# Altium integrated library TI Power Management Power Over Ethernet.IntLib: 76 symbols (part 5 of 9)
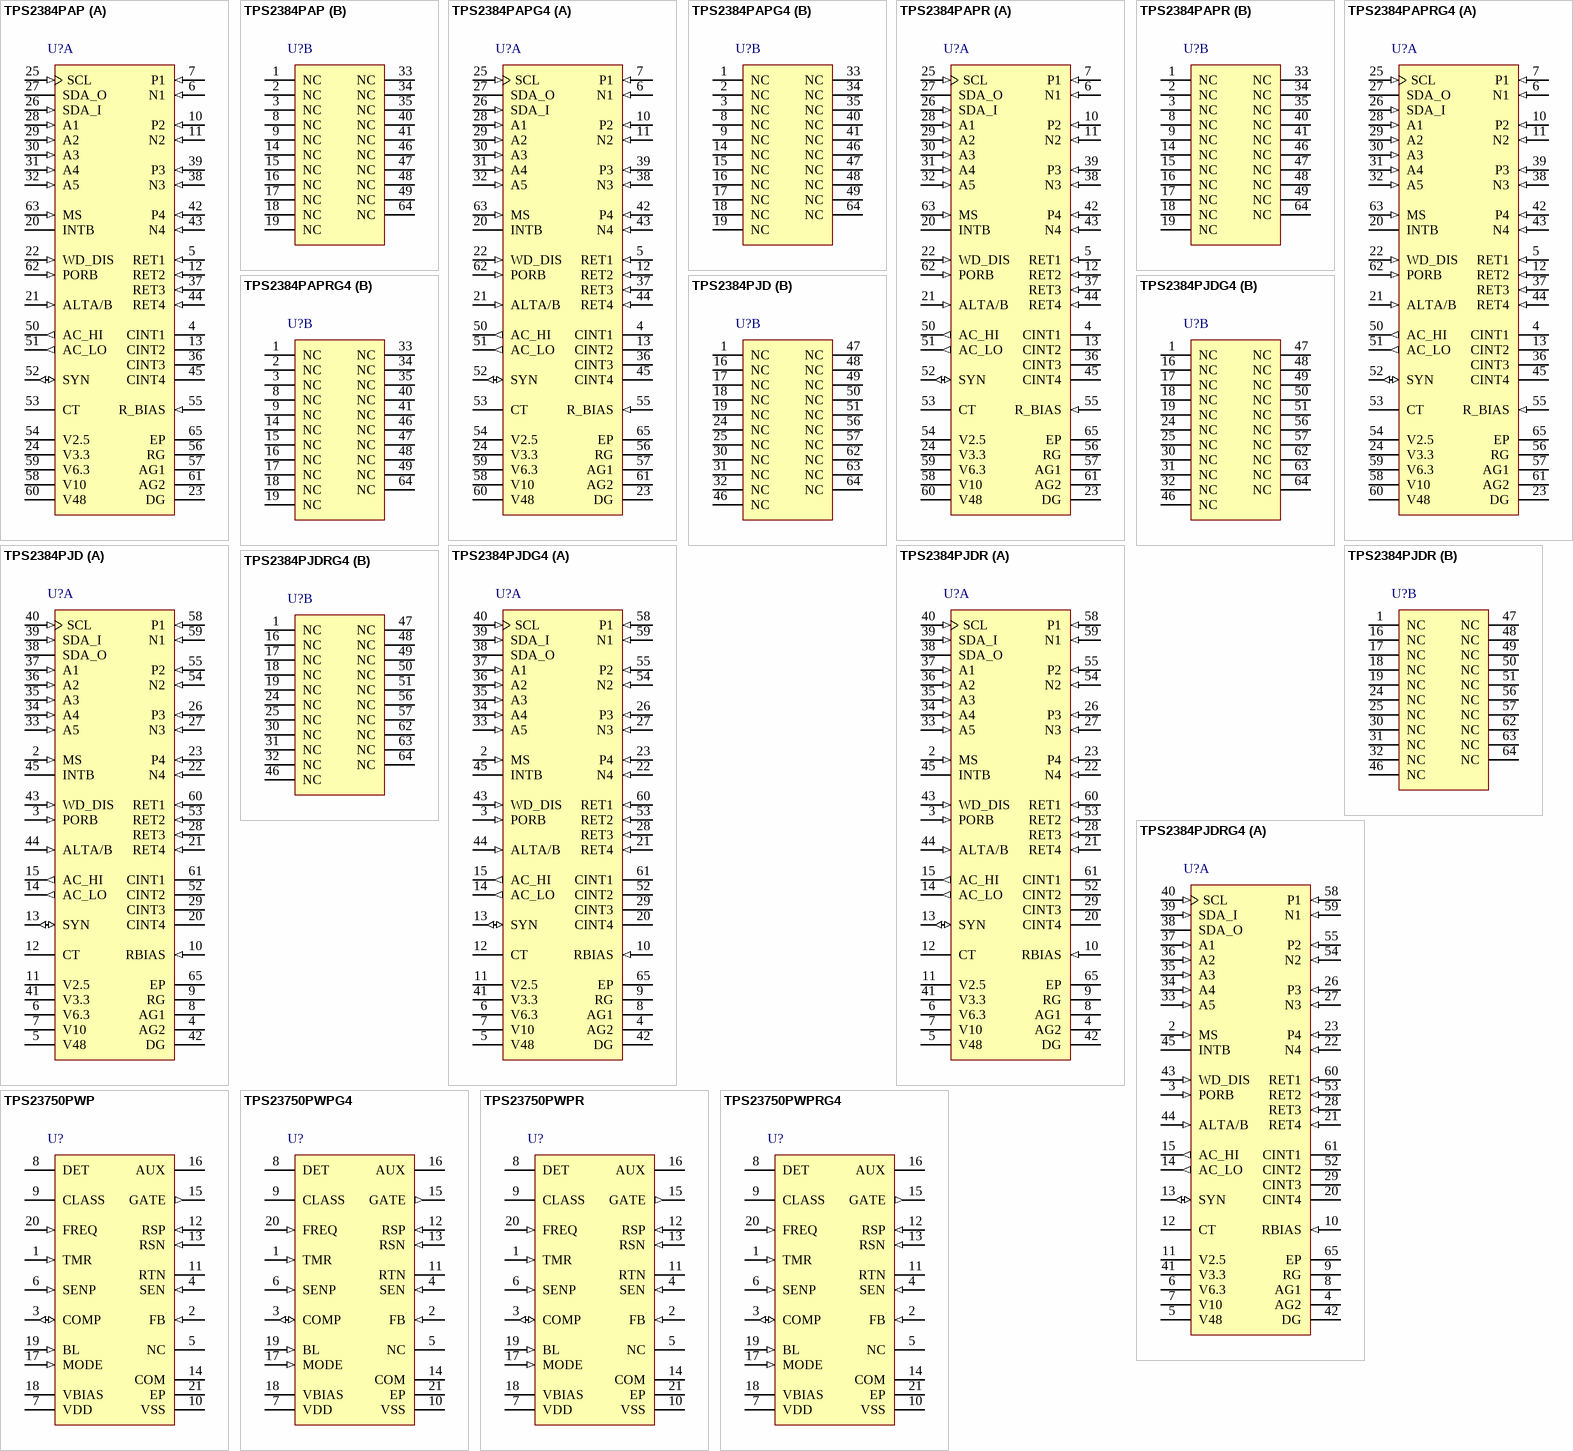
[diagram p7: symbols TPS2384PAP to TPS23750PWPRG4]

## TPS23750PWPRG4
designator U?
IEEE 802.3af PD Controller with Integrated DC / DC, -40 to 85 degC, 20-pin SOP (PW20), Green (RoHS & no Sb/Br); Manufacturer: Texas Instruments; PartNumber: TPS23750PWPRG4; Auxiliary Power Rails Supported: 24V-57V; Auxiliary/Local Power Support: External Circuit; Duty Cycle(%): 50; Error Amplifier: Yes; Fault Response: Auto Retry; PD Power Level: 13W; PoE Current Limit(Min)(mA): 405; PoE I/F & DC DC Control: TRUE; PoE Inrush Limit(Typ)(mA): 140; PoE Standards Supported: 802.3at type1; rDS(on) per FET(Typ)(mOhms): 600; SubFamily: Powered Device; Switching Frequency: Programmable; DatasheetVersion: SLVS590B; PackageVersion: 4073225-4/1; PackageReference: PWP20-3610X2009TP; PackageDescription: 20-Pin PowerPAD Plastic Small Outline, Body 6.5 x 4.4 mm,0.65 mm Pitch; Supplier 1: Digi-Key; Supplier Part Number 1: TPS23750PWPRG4-ND; Supplier 2: Newark; Supplier Part Number 2: 58K6909; Supplier 3: Mouser; Supplier Part Number 3: 595-TPS23750PWPRG4; Eco-Plan: Green (RoHS & no Sb/Br); UVLO: 802.3af; Mounting Technology: Surface Mount; Code_JEDEC: MO-153; ComponentLink1Description: Manufacturer URL; ComponentLink1URL: http://www.ti.com/; ComponentLink2Description: Datasheet; ComponentLink2URL: http://www.ti.com/general/docs/lit/getliterature.tsp?genericPartNumber=TPS23750&fileType=pdf; ComponentLink3Description: Package Specification; ComponentLink3URL: http://www.ti.com/litv/pdf/mhts001g
footprint TI-PWP20-3610X2009TP_N (SOP, 20-Leads, Body 6.5x4.4mm, Pitch 0.65mm, Thermal Pad 3.605x2.005mm, IPC Medium Density)
footprint TI-PWP20-3610X2009TP_L (SOP, 20-Leads, Body 6.5x4.4mm, Pitch 0.65mm, Thermal Pad 3.605x2.005mm, IPC High Density)
footprint TI-PWP20-3610X2009TP_M (SOP, 20-Leads, Body 6.5x4.4mm, Pitch 0.65mm, Thermal Pad 3.605x2.005mm, IPC Low Density)
pins: 1 TMR (in) "Multifunction pin, serves as a converter soft start and a hiccup timer. A capacitor to RTN determines the softstart and hiccup timing.", 2 FB (in) "Converter error amplifier inverting input. Tie to RTN when not used.", 3 COMP (io) "Converter error amplifier output and PWM block input. COMP is used for loop compensation or PWM control with an external error amplifier and opto-isolator.", 4 SEN (in) "Voltage-level translator's sense input and enable; connect to RTN to disable. SEN is regulated to 1.5 V below SENP by the control loop when the translator is used. Typically used in a low-side switch buck converter.", 5 NC "No connect. There are no internal connections.", 6 SENP (in) "Voltage-level translator's positive reference voltage (sense positive) used in conjunction with SEN. Tie to the regulated voltage positive rail when the translator is used, and VDD otherwise.", 7 VDD (power) "Positive supply input.", 8 DET "PoE detection pin; a 24.9 k ohm resistor to VDD establishes a valid signature. It is pulled to VSS during detection.", 9 CLASS "Classification pin for PoE. A resistor to VSS sets the PoE device class. This pin is driven to 10 V during classification.", 10 VSS (power) "Negative supply input from the PoE feed (after required ORing bridges).", 11 RTN "The switched PoE negative output. RTN is the converter’s negative input rail. COM and RSN should be tied to RTN.", 12 RSP (in) "Connect to the converter switching MOSFET current-sense resistor (current Sense Resistor Positive end).", 13 RSN (in) "Converter switching MOSFET current-sense reference (current Sense Resistor Negative end) and quiet analog return (ground). Connect to RTN.", 14 COM (power) "Converter MOSFET gate driver circuit return. Connect to RTN.", 15 GATE (out) "Converter switching MOSFET gate drive.", 16 AUX (power) "Converter gate driver supply; outputs 10 V and can accept inputs up to 16 V. Connect a bypass capacitor to COM.", 17 MODE (in) "Connect to VBIAS to disable the error amplifier, otherwise to RTN.", 18 VBIAS (power) "Converter internal 5 V bias supply output, also used to bias external optocoupler. A bypass capacitor to RTN is required.", 19 BL (in) "Converter current sense blanking selector. Leave floating for minimum blanking, tie BL to RTN for a short period, and to VBIAS for a long period.", 20 FREQ (in) "Connect a resistor to RTN to program the switching frequency.", 21 EP (power) "Internally connected to VSS; used to heatsink the part to the circuit board traces. Must be connected to the VSS pin."

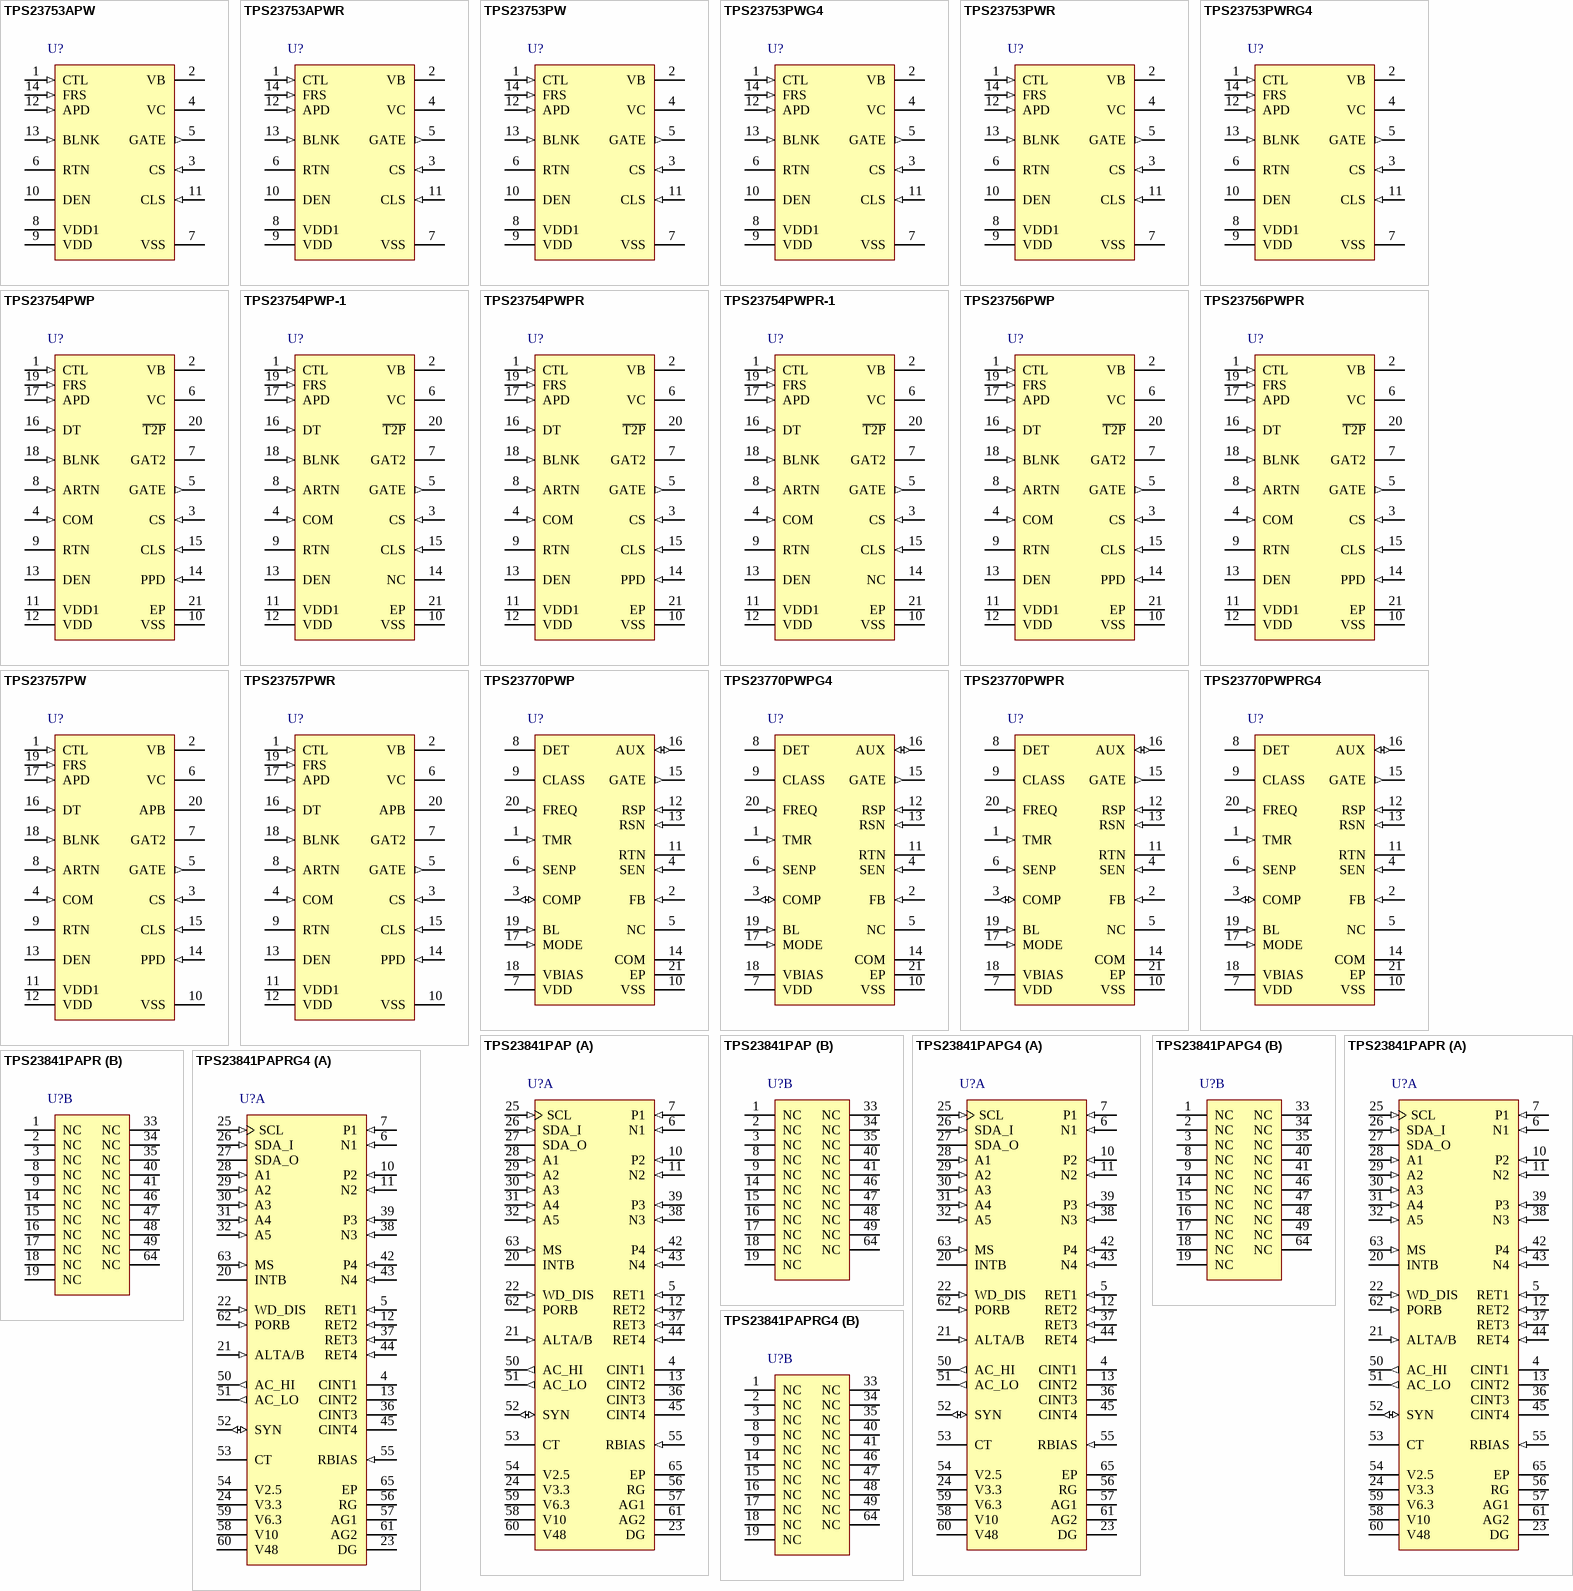
[diagram p2: symbols TPS23753APW to TPS23841PAPRG4]

## TPS23753APW
designator U?
IEEE 802.3-2005 PoE Interface and Isolated Converter Controller with Enhanced ESD Ride-Through, -40 to 125 degC, 14-pin SOP (PW14), Green (RoHS & no Sb/Br); Manufacturer: Texas Instruments; PartNumber: TPS23753APW; Auxiliary Power Rails Supported: 12V-57V; Auxiliary/Local Power Support: Programmable; Duty Cycle(%): 78; Fault Response: Auto Retry; PD Power Level: 13W; PoE Current Limit(Min)(mA): 405; PoE I/F & DC DC Control: TRUE; PoE Inrush Limit(Typ)(mA): 140; PoE Standards Supported: 802.3at type1; rDS(on) per FET(Typ)(mOhms): 700; SubFamily: Powered Device; Switching Frequency: Synchronizable and Programmable; UVLO: Unified; DatasheetVersion: SLVS933B; PackageVersion: 4040064-3/G; PackageReference: PW14; PackageDescription: 14-Pin Plastic Small Outline, Body 5 x 4.4 mm, 0.65 mm Pitch; Supplier 1: Digi-Key; Supplier Part Number 1: 296-24928-5-ND; Supplier 2: Newark; Supplier Part Number 2: 50R8103; Supplier 3: Mouser; Supplier Part Number 3: 595-TPS23753APW; Eco-Plan: Green (RoHS & no Sb/Br); Mounting Technology: Surface Mount; Code_JEDEC: MO-153; ComponentLink1Description: Manufacturer URL; ComponentLink1URL: http://www.ti.com/; ComponentLink2Description: Datasheet; ComponentLink2URL: http://www.ti.com/general/docs/lit/getliterature.tsp?genericPartNumber=TPS23753A&fileType=pdf; ComponentLink3Description: Package Specification; ComponentLink3URL: http://www.ti.com/litv/pdf/mpds360
footprint TI-PW14_N (SOP, 14-Leads, Body 5x4.4mm, Pitch 0.65mm, IPC Medium Density)
footprint TI-PW14_L (SOP, 14-Leads, Body 5x4.4mm, Pitch 0.65mm, IPC High Density)
footprint TI-PW14_M (SOP, 14-Leads, Body 5x4.4mm, Pitch 0.65mm, IPC Low Density)
pins: 1 CTL (in) "The control loop input to the PWM (pulse width modulator). Use VB as a pull up for CTL.", 2 VB (power) "5 V bias rail 2 V for dc/dc control circuits. Apply a 0.1 uF to RTN. VB may be used to bias an external optocoupler for feedback.", 3 CS (in) "Dc/dc converter switching MOSFET current sense input. Connect CS to the high side of RCS per Figure 1.", 4 VC (power) "Dc/dc converter bias voltage. The internal startup current source and converter bias winding output power this pin. Connect a 0.22 mF minimum ceramic capacitor to RTN, and a larger capacitor to facilitate startup.", 5 GATE (out) "Gate drive output for the dc/dc converter switching MOSFET.", 6 RTN "RTN is the negative rail input to the dc/dc converter and output of the PoE hotswap.", 7 VSS (power) "Negative power rail derived from the PoE source.", 8 VDD1 (power) "Source of dc/dc converter startup current. Connect to VDD for most applications.", 9 VDD (power) "Positive input power rail for PoE interface circuit. Derived from the PoE source.", 10 DEN "Connect a 24.9 kohm resistor from DEN to VDD to provide the PoE detection signature. Pulling this pin to VSS during powered operation causes the internal hotswap MOSFET to turn off.", 11 CLS (in) "Connect a resistor from CLS to VSS to program the classification current per Table 2.", 12 APD (in) "Pull APD above 1.5 V to disable the internal PD hotswap switch, forcing power to come from an external adapter. Connect to the adapter through a resistor divider.", 13 BLNK (in) "Connect to RTN to utilize the internally set blanking period or connect through a resistor to RTN to program the blanking period.", 14 FRS (in) "Connect a resistor from FRS to RTN to program the converter switching frequency."

## TPS23753APWR
designator U?
IEEE 802.3-2005 PoE Interface and Isolated Converter Controller with Enhanced ESD Ride-Through, -40 to 125 degC, 14-pin SOP (PW14), Green (RoHS & no Sb/Br); Manufacturer: Texas Instruments; PartNumber: TPS23753APWR; Auxiliary Power Rails Supported: 12V-57V; Auxiliary/Local Power Support: Programmable; Duty Cycle(%): 78; Fault Response: Auto Retry; PD Power Level: 13W; PoE Current Limit(Min)(mA): 405; PoE I/F & DC DC Control: TRUE; PoE Inrush Limit(Typ)(mA): 140; PoE Standards Supported: 802.3at type1; rDS(on) per FET(Typ)(mOhms): 700; SubFamily: Powered Device; Switching Frequency: Synchronizable and Programmable; UVLO: Unified; DatasheetVersion: SLVS933B; PackageVersion: 4040064-3/G; PackageReference: PW14; PackageDescription: 14-Pin Plastic Small Outline, Body 5 x 4.4 mm, 0.65 mm Pitch; Supplier 1: Digi-Key; Supplier Part Number 1: TPS23753APWR-ND; Supplier 2: Newark; Supplier Part Number 2: 50R8104; Supplier 3: Mouser; Supplier Part Number 3: 595-TPS23753APWR; Eco-Plan: Green (RoHS & no Sb/Br); Mounting Technology: Surface Mount; Code_JEDEC: MO-153; ComponentLink1Description: Manufacturer URL; ComponentLink1URL: http://www.ti.com/; ComponentLink2Description: Datasheet; ComponentLink2URL: http://www.ti.com/general/docs/lit/getliterature.tsp?genericPartNumber=TPS23753A&fileType=pdf; ComponentLink3Description: Package Specification; ComponentLink3URL: http://www.ti.com/litv/pdf/mpds360
footprint TI-PW14_N (SOP, 14-Leads, Body 5x4.4mm, Pitch 0.65mm, IPC Medium Density)
footprint TI-PW14_L (SOP, 14-Leads, Body 5x4.4mm, Pitch 0.65mm, IPC High Density)
footprint TI-PW14_M (SOP, 14-Leads, Body 5x4.4mm, Pitch 0.65mm, IPC Low Density)
pins: 1 CTL (in) "The control loop input to the PWM (pulse width modulator). Use VB as a pull up for CTL.", 2 VB (power) "5 V bias rail 2 V for dc/dc control circuits. Apply a 0.1 uF to RTN. VB may be used to bias an external optocoupler for feedback.", 3 CS (in) "Dc/dc converter switching MOSFET current sense input. Connect CS to the high side of RCS per Figure 1.", 4 VC (power) "Dc/dc converter bias voltage. The internal startup current source and converter bias winding output power this pin. Connect a 0.22 mF minimum ceramic capacitor to RTN, and a larger capacitor to facilitate startup.", 5 GATE (out) "Gate drive output for the dc/dc converter switching MOSFET.", 6 RTN "RTN is the negative rail input to the dc/dc converter and output of the PoE hotswap.", 7 VSS (power) "Negative power rail derived from the PoE source.", 8 VDD1 (power) "Source of dc/dc converter startup current. Connect to VDD for most applications.", 9 VDD (power) "Positive input power rail for PoE interface circuit. Derived from the PoE source.", 10 DEN "Connect a 24.9 kohm resistor from DEN to VDD to provide the PoE detection signature. Pulling this pin to VSS during powered operation causes the internal hotswap MOSFET to turn off.", 11 CLS (in) "Connect a resistor from CLS to VSS to program the classification current per Table 2.", 12 APD (in) "Pull APD above 1.5 V to disable the internal PD hotswap switch, forcing power to come from an external adapter. Connect to the adapter through a resistor divider.", 13 BLNK (in) "Connect to RTN to utilize the internally set blanking period or connect through a resistor to RTN to program the blanking period.", 14 FRS (in) "Connect a resistor from FRS to RTN to program the converter switching frequency."

## TPS23753PW
designator U?
IEEE 802.3-2005 PoE Interface and Isolated Converter and Controller, -40 to 125 degC, 14-pin SOP (PW14), Green (RoHS & no Sb/Br); Manufacturer: Texas Instruments; PartNumber: TPS23753PW; Auxiliary Power Rails Supported: 12V-57V; Auxiliary/Local Power Support: Programmable; Duty Cycle(%): 78; Fault Response: Auto Retry; PD Power Level: 13W; PoE Current Limit(Min)(mA): 405; PoE I/F & DC DC Control: TRUE; PoE Inrush Limit(Typ)(mA): 140; PoE Standards Supported: 802.3at type1; rDS(on) per FET(Typ)(mOhms): 700; SubFamily: Powered Device; Switching Frequency: Synchronizable and Programmable; UVLO: Unified; DatasheetVersion: SLVS853C; PackageVersion: 4040064-3/G; PackageReference: PW14; PackageDescription: 14-Pin Plastic Small Outline, Body 5 x 4.4 mm, 0.65 mm Pitch; Supplier 1: Digi-Key; Supplier Part Number 1: 296-23547-5-ND; Supplier 2: Farnell; Supplier Part Number 2: 1645405; Supplier 3: Newark; Supplier Part Number 3: 15N0086; Supplier 4: Mouser; Supplier Part Number 4: 595-TPS23753PW; Eco-Plan: Green (RoHS & no Sb/Br); Mounting Technology: Surface Mount; Code_JEDEC: MO-153; ComponentLink1Description: Manufacturer URL; ComponentLink1URL: http://www.ti.com/; ComponentLink2Description: Datasheet; ComponentLink2URL: http://www.ti.com/general/docs/lit/getliterature.tsp?genericPartNumber=TPS23753&fileType=pdf; ComponentLink3Description: Package Specification; ComponentLink3URL: http://www.ti.com/litv/pdf/mpds360
footprint TI-PW14_N (SOP, 14-Leads, Body 5x4.4mm, Pitch 0.65mm, IPC Medium Density)
footprint TI-PW14_L (SOP, 14-Leads, Body 5x4.4mm, Pitch 0.65mm, IPC High Density)
footprint TI-PW14_M (SOP, 14-Leads, Body 5x4.4mm, Pitch 0.65mm, IPC Low Density)
pins: 1 CTL (in) "The control loop input to the PWM (pulse width modulator). Use VB as a pull up for CTL.", 2 VB (power) "5 V bias rail for dc/dc control circuits. Apply a 0.1 uF to RTN. VB may be used to bias an external optocoupler for feedback.", 3 CS (in) "Dc/dc converter switching MOSFET current sense input. Connect CS to the high side of the RTN-referenced current sense resistor.", 4 VC (power) "Dc/dc converter bias voltage. The internal startup current source and converter bias winding output power this pin. Connect a 0.22 uF minimum ceramic capacitor to RTN, and a larger capacitor to facilitate startup.", 5 GATE (out) "Gate drive output for the dc/dc converter switching MOSFET.", 6 RTN "RTN is the negative rail input to the dc/dc converter and output of the PoE hotswap.", 7 VSS (power) "Negative power rail derived from the PoE source.", 8 VDD1 (power) "Source of dc/dc converter startup current. Connect to VDD for most applications.", 9 VDD (power) "Positive input power rail for PoE interface circuit. Derived from the PoE source.", 10 DEN "Connect a 24.9 k ohm resistor from DEN to VDD to provide the PoE detection signature. Pulling this pin to VSS during powered operation causes the internal hotswap MOSFET to turn off.", 11 CLS (in) "Connect a resistor from CLS to VSS to program the classification current per Table 2.", 12 APD (in) "Pull APD above 1.5 V to disable the internal PD hotswap switch, forcing power to come from an external adapter. Connect to the adapter through a resistor divider.", 13 BLNK (in) "Connect to RTN to utilize the internally set blanking period or connect through a resistor to RTN to program the blanking period.", 14 FRS (in) "Connect a resistor from FRS to RTN to program the converter switching frequency."

## TPS23753PWG4
designator U?
IEEE 802.3-2005 PoE Interface and Isolated Converter and Controller, -40 to 125 degC, 14-pin SOP (PW14), Green (RoHS & no Sb/Br); Manufacturer: Texas Instruments; PartNumber: TPS23753PWG4; Auxiliary Power Rails Supported: 12V-57V; Auxiliary/Local Power Support: Programmable; Duty Cycle(%): 78; Fault Response: Auto Retry; PD Power Level: 13W; PoE Current Limit(Min)(mA): 405; PoE I/F & DC DC Control: TRUE; PoE Inrush Limit(Typ)(mA): 140; PoE Standards Supported: 802.3at type1; rDS(on) per FET(Typ)(mOhms): 700; SubFamily: Powered Device; Switching Frequency: Synchronizable and Programmable; UVLO: Unified; DatasheetVersion: SLVS853C; PackageVersion: 4040064-3/G; PackageReference: PW14; PackageDescription: 14-Pin Plastic Small Outline, Body 5 x 4.4 mm, 0.65 mm Pitch; Supplier 1: Digi-Key; Supplier Part Number 1: TPS23753PWG4-ND; Supplier 2: Mouser; Supplier Part Number 2: 595-TPS23753PWG4; Eco-Plan: Green (RoHS & no Sb/Br); Mounting Technology: Surface Mount; Code_JEDEC: MO-153; ComponentLink1Description: Manufacturer URL; ComponentLink1URL: http://www.ti.com/; ComponentLink2Description: Datasheet; ComponentLink2URL: http://www.ti.com/general/docs/lit/getliterature.tsp?genericPartNumber=TPS23753&fileType=pdf; ComponentLink3Description: Package Specification; ComponentLink3URL: http://www.ti.com/litv/pdf/mpds360
footprint TI-PW14_N (SOP, 14-Leads, Body 5x4.4mm, Pitch 0.65mm, IPC Medium Density)
footprint TI-PW14_L (SOP, 14-Leads, Body 5x4.4mm, Pitch 0.65mm, IPC High Density)
footprint TI-PW14_M (SOP, 14-Leads, Body 5x4.4mm, Pitch 0.65mm, IPC Low Density)
pins: 1 CTL (in) "The control loop input to the PWM (pulse width modulator). Use VB as a pull up for CTL.", 2 VB (power) "5 V bias rail for dc/dc control circuits. Apply a 0.1 uF to RTN. VB may be used to bias an external optocoupler for feedback.", 3 CS (in) "Dc/dc converter switching MOSFET current sense input. Connect CS to the high side of the RTN-referenced current sense resistor.", 4 VC (power) "Dc/dc converter bias voltage. The internal startup current source and converter bias winding output power this pin. Connect a 0.22 uF minimum ceramic capacitor to RTN, and a larger capacitor to facilitate startup.", 5 GATE (out) "Gate drive output for the dc/dc converter switching MOSFET.", 6 RTN "RTN is the negative rail input to the dc/dc converter and output of the PoE hotswap.", 7 VSS (power) "Negative power rail derived from the PoE source.", 8 VDD1 (power) "Source of dc/dc converter startup current. Connect to VDD for most applications.", 9 VDD (power) "Positive input power rail for PoE interface circuit. Derived from the PoE source.", 10 DEN "Connect a 24.9 k ohm resistor from DEN to VDD to provide the PoE detection signature. Pulling this pin to VSS during powered operation causes the internal hotswap MOSFET to turn off.", 11 CLS (in) "Connect a resistor from CLS to VSS to program the classification current per Table 2.", 12 APD (in) "Pull APD above 1.5 V to disable the internal PD hotswap switch, forcing power to come from an external adapter. Connect to the adapter through a resistor divider.", 13 BLNK (in) "Connect to RTN to utilize the internally set blanking period or connect through a resistor to RTN to program the blanking period.", 14 FRS (in) "Connect a resistor from FRS to RTN to program the converter switching frequency."

## TPS23753PWR
designator U?
IEEE 802.3-2005 PoE Interface and Isolated Converter and Controller, -40 to 125 degC, 14-pin SOP (PW14), Green (RoHS & no Sb/Br); Manufacturer: Texas Instruments; PartNumber: TPS23753PWR; Auxiliary Power Rails Supported: 12V-57V; Auxiliary/Local Power Support: Programmable; Duty Cycle(%): 78; Fault Response: Auto Retry; PD Power Level: 13W; PoE Current Limit(Min)(mA): 405; PoE I/F & DC DC Control: TRUE; PoE Inrush Limit(Typ)(mA): 140; PoE Standards Supported: 802.3at type1; rDS(on) per FET(Typ)(mOhms): 700; SubFamily: Powered Device; Switching Frequency: Synchronizable and Programmable; UVLO: Unified; DatasheetVersion: SLVS853C; PackageVersion: 4040064-3/G; PackageReference: PW14; PackageDescription: 14-Pin Plastic Small Outline, Body 5 x 4.4 mm, 0.65 mm Pitch; Supplier 1: Digi-Key; Supplier Part Number 1: TPS23753PWR-ND; Supplier 2: Newark; Supplier Part Number 2: 03P5170; Supplier 3: Mouser; Supplier Part Number 3: 595-TPS23753PWR; Eco-Plan: Green (RoHS & no Sb/Br); Mounting Technology: Surface Mount; Code_JEDEC: MO-153; ComponentLink1Description: Manufacturer URL; ComponentLink1URL: http://www.ti.com/; ComponentLink2Description: Datasheet; ComponentLink2URL: http://www.ti.com/general/docs/lit/getliterature.tsp?genericPartNumber=TPS23753&fileType=pdf; ComponentLink3Description: Package Specification; ComponentLink3URL: http://www.ti.com/litv/pdf/mpds360
footprint TI-PW14_N (SOP, 14-Leads, Body 5x4.4mm, Pitch 0.65mm, IPC Medium Density)
footprint TI-PW14_L (SOP, 14-Leads, Body 5x4.4mm, Pitch 0.65mm, IPC High Density)
footprint TI-PW14_M (SOP, 14-Leads, Body 5x4.4mm, Pitch 0.65mm, IPC Low Density)
pins: 1 CTL (in) "The control loop input to the PWM (pulse width modulator). Use VB as a pull up for CTL.", 2 VB (power) "5 V bias rail for dc/dc control circuits. Apply a 0.1 uF to RTN. VB may be used to bias an external optocoupler for feedback.", 3 CS (in) "Dc/dc converter switching MOSFET current sense input. Connect CS to the high side of the RTN-referenced current sense resistor.", 4 VC (power) "Dc/dc converter bias voltage. The internal startup current source and converter bias winding output power this pin. Connect a 0.22 uF minimum ceramic capacitor to RTN, and a larger capacitor to facilitate startup.", 5 GATE (out) "Gate drive output for the dc/dc converter switching MOSFET.", 6 RTN "RTN is the negative rail input to the dc/dc converter and output of the PoE hotswap.", 7 VSS (power) "Negative power rail derived from the PoE source.", 8 VDD1 (power) "Source of dc/dc converter startup current. Connect to VDD for most applications.", 9 VDD (power) "Positive input power rail for PoE interface circuit. Derived from the PoE source.", 10 DEN "Connect a 24.9 k ohm resistor from DEN to VDD to provide the PoE detection signature. Pulling this pin to VSS during powered operation causes the internal hotswap MOSFET to turn off.", 11 CLS (in) "Connect a resistor from CLS to VSS to program the classification current per Table 2.", 12 APD (in) "Pull APD above 1.5 V to disable the internal PD hotswap switch, forcing power to come from an external adapter. Connect to the adapter through a resistor divider.", 13 BLNK (in) "Connect to RTN to utilize the internally set blanking period or connect through a resistor to RTN to program the blanking period.", 14 FRS (in) "Connect a resistor from FRS to RTN to program the converter switching frequency."

## TPS23753PWRG4
designator U?
IEEE 802.3-2005 PoE Interface and Isolated Converter and Controller, -40 to 125 degC, 14-pin SOP (PW14), Green (RoHS & no Sb/Br); Manufacturer: Texas Instruments; PartNumber: TPS23753PWRG4; Auxiliary Power Rails Supported: 12V-57V; Auxiliary/Local Power Support: Programmable; Duty Cycle(%): 78; Fault Response: Auto Retry; PD Power Level: 13W; PoE Current Limit(Min)(mA): 405; PoE I/F & DC DC Control: TRUE; PoE Inrush Limit(Typ)(mA): 140; PoE Standards Supported: 802.3at type1; rDS(on) per FET(Typ)(mOhms): 700; SubFamily: Powered Device; Switching Frequency: Synchronizable and Programmable; UVLO: Unified; DatasheetVersion: SLVS853C; PackageVersion: 4040064-3/G; PackageReference: PW14; PackageDescription: 14-Pin Plastic Small Outline, Body 5 x 4.4 mm, 0.65 mm Pitch; Supplier 1: Digi-Key; Supplier Part Number 1: TPS23753PWRG4-ND; Supplier 2: Mouser; Supplier Part Number 2: 595-TPS23753PWRG4; Eco-Plan: Green (RoHS & no Sb/Br); Mounting Technology: Surface Mount; Code_JEDEC: MO-153; ComponentLink1Description: Manufacturer URL; ComponentLink1URL: http://www.ti.com/; ComponentLink2Description: Datasheet; ComponentLink2URL: http://www.ti.com/general/docs/lit/getliterature.tsp?genericPartNumber=TPS23753&fileType=pdf; ComponentLink3Description: Package Specification; ComponentLink3URL: http://www.ti.com/litv/pdf/mpds360
footprint TI-PW14_N (SOP, 14-Leads, Body 5x4.4mm, Pitch 0.65mm, IPC Medium Density)
footprint TI-PW14_L (SOP, 14-Leads, Body 5x4.4mm, Pitch 0.65mm, IPC High Density)
footprint TI-PW14_M (SOP, 14-Leads, Body 5x4.4mm, Pitch 0.65mm, IPC Low Density)
pins: 1 CTL (in) "The control loop input to the PWM (pulse width modulator). Use VB as a pull up for CTL.", 2 VB (power) "5 V bias rail for dc/dc control circuits. Apply a 0.1 uF to RTN. VB may be used to bias an external optocoupler for feedback.", 3 CS (in) "Dc/dc converter switching MOSFET current sense input. Connect CS to the high side of the RTN-referenced current sense resistor.", 4 VC (power) "Dc/dc converter bias voltage. The internal startup current source and converter bias winding output power this pin. Connect a 0.22 uF minimum ceramic capacitor to RTN, and a larger capacitor to facilitate startup.", 5 GATE (out) "Gate drive output for the dc/dc converter switching MOSFET.", 6 RTN "RTN is the negative rail input to the dc/dc converter and output of the PoE hotswap.", 7 VSS (power) "Negative power rail derived from the PoE source.", 8 VDD1 (power) "Source of dc/dc converter startup current. Connect to VDD for most applications.", 9 VDD (power) "Positive input power rail for PoE interface circuit. Derived from the PoE source.", 10 DEN "Connect a 24.9 k ohm resistor from DEN to VDD to provide the PoE detection signature. Pulling this pin to VSS during powered operation causes the internal hotswap MOSFET to turn off.", 11 CLS (in) "Connect a resistor from CLS to VSS to program the classification current per Table 2.", 12 APD (in) "Pull APD above 1.5 V to disable the internal PD hotswap switch, forcing power to come from an external adapter. Connect to the adapter through a resistor divider.", 13 BLNK (in) "Connect to RTN to utilize the internally set blanking period or connect through a resistor to RTN to program the blanking period.", 14 FRS (in) "Connect a resistor from FRS to RTN to program the converter switching frequency."

## TPS23754PWP
designator U?
High Power / High Efficiency PoE Interface and DC / DC Controller, -40 to 125 degC, 20-pin SOP (PW20), Green (RoHS & no Sb/Br); Manufacturer: Texas Instruments; PartNumber: TPS23754PWP; Auxiliary Power Rails Supported: 24V-57V; Auxiliary/Local Power Support: Programmable; Driven/Active Clamp (Second Gate Drive): Yes; Duty Cycle(%): 78; Fault Response: Auto Retry; PD Power Level: 25W; PoE Current Limit(Min)(mA): 850; PoE I/F & DC DC Control: TRUE; PoE Inrush Limit(Typ)(mA): 140; PoE Standards Supported: 802.3at type1, 2; rDS(on) per FET(Typ)(mOhms): 430; SubFamily: Powered Device; Switching Frequency: Synchronizable and Programmable; UVLO: Unified; DatasheetVersion: SLVS885F; PackageVersion: 4073225-4/1; PackageReference: PWP20-3610X2009TP; PackageDescription: 20-Pin PowerPAD Plastic Small Outline, Body 6.5 x 4.4 mm,0.65 mm Pitch; Supplier 1: Digi-Key; Supplier Part Number 1: 296-24369-5-ND; Supplier 2: Farnell; Supplier Part Number 2: 1735582; Supplier 3: Newark; Supplier Part Number 3: 06R6421; Supplier 4: Mouser; Supplier Part Number 4: 595-TPS23754PWP; Eco-Plan: Green (RoHS & no Sb/Br); Mounting Technology: Surface Mount; Code_JEDEC: MO-153; ComponentLink1Description: Manufacturer URL; ComponentLink1URL: http://www.ti.com/; ComponentLink2Description: Datasheet; ComponentLink2URL: http://www.ti.com/general/docs/lit/getliterature.tsp?genericPartNumber=TPS23754&fileType=pdf; ComponentLink3Description: Package Specification; ComponentLink3URL: http://www.ti.com/litv/pdf/mhts001g
footprint TI-PWP20-3610X2009TP_N (SOP, 20-Leads, Body 6.5x4.4mm, Pitch 0.65mm, Thermal Pad 3.605x2.005mm, IPC Medium Density)
footprint TI-PWP20-3610X2009TP_L (SOP, 20-Leads, Body 6.5x4.4mm, Pitch 0.65mm, Thermal Pad 3.605x2.005mm, IPC High Density)
footprint TI-PWP20-3610X2009TP_M (SOP, 20-Leads, Body 6.5x4.4mm, Pitch 0.65mm, Thermal Pad 3.605x2.005mm, IPC Low Density)
pins: 1 CTL (in) "The control loop input to the PWM (pulse width modulator), typically driven by output regulation feedback (e.g. optocoupler). Use VB as a pullup for CTL.", 2 VB (power) "5.1 V bias rail for dc/dc control circuits and the feedback optocoupler. Typically bypass with a 0.1 uF to ARTN.", 3 CS (in) "DC/DC converter switching MOSFET current sense input.", 4 COM (in) "Gate driver return, connect to ARTN and RTN.", 5 GATE (out) "Gate drive output for the main dc/dc converter switching MOSFET.", 6 VC (power) "DC/DC converter bias voltage. Connect a 0.47 uF (minimum) ceramic capacitor to ARTN at the pin, and a larger capacitor to power startup.", 7 GAT2 (hiz) "Gate drive output for a second dc/dc converter switching MOSFET", 8 ARTN (in) "ARTN is the dc/dc converter analog return. Tie to RTN and COM on the circuit board.", 9 RTN "RTN is the output of the PoE hotswap MOSFET.", 10 VSS (power) "Connect to the negative power rail derived from the PoE source.", 11 VDD1 (power) "Source of dc/dc converter startup current. Connect to VDD for many applications.", 12 VDD (power) "Connect to the positive PoE input power rail. VDD powers the PoE interface circuits. Bypass with a 0.1 uF capacitor and protect with a TVS.", 13 DEN "Connect a 24.9 k ohm resistor from DEN to VDD to provide the PoE detection signature. Pulling this pin to VSS during powered operation causes the internal hotswap MOSFET to turn off.", 14 PPD (in) "Raising VPPD-VSS above 1.55 V enables the hotswap MOSFET and activates T2P. Connecting PPD to VDD enables classification when APD is active. Tie PPD to VSS or float when not used.", 15 CLS (in) "Connect a resistor from CLS to VSS to program classification current. 2.5 V is applied to the program resistor during classification to set class current.", 16 DT (in) "Connect a resistor from DT to ARTN to set the GATE to GAT2 dead time. Tie DT to VB to disable GAT2 operation.", 17 APD (in) "Raising VAPD-VARTN above 1.5 V disables the internal hotswap switch, turns class off, and forces T2P active. This forces power to come from a external VDD1-RTN adapter. Tie APD to ARTN when not used.", 18 BLNK (in) "Connect to ARTN to utilize the internally set current-sense blanking period, or connect a resistor from BLNK to ARTN to program a more accurate period.", 19 FRS (in) "Connect a resistor from FRS to ARTN to program the converter switching frequency. FRS may be used to synchronize the converter to an external timing source.", 20 ~{T2P} (oc) "Active low output that indicates a PSE has performed the IEEE 802.3at type 2 hardware classification, PPD is active, or APD is active.", 21 EP (power) "Connect to VSS."

## TPS23754PWP-1
designator U?
IEEE 802.3at PoE Interface and Isolated Converter Controller, -40 to 125 degC, 20-pin SOP (PW20), Green (RoHS & no Sb/Br); Manufacturer: Texas Instruments; PartNumber: TPS23754PWP-1; Auxiliary Power Rails Supported: 24V-57V; Auxiliary/Local Power Support: Programmable; Driven/Active Clamp (Second Gate Drive): Yes; Duty Cycle(%): 78; Fault Response: Auto Retry; PD Power Level: 25W; PoE Current Limit(Min)(mA): 850; PoE I/F & DC DC Control: TRUE; PoE Inrush Limit(Typ)(mA): 140; PoE Standards Supported: 802.3at type1, 2; rDS(on) per FET(Typ)(mOhms): 430; SubFamily: Powered Device; Switching Frequency: Synchronizable and Programmable; UVLO: Unified; DatasheetVersion: SLVS885F; PackageVersion: 4073225-4/1; PackageReference: PWP20-3610X2009TP; PackageDescription: 20-Pin PowerPAD Plastic Small Outline, Body 6.5 x 4.4 mm,0.65 mm Pitch; Supplier 1: Digi-Key; Supplier Part Number 1: 296-24370-5-ND; Supplier 2: Digi-Key; Supplier Part Number 2: 296-24370-2-ND; Supplier 3: Digi-Key; Supplier Part Number 3: 296-24370-6-ND; Supplier 4: Newark; Supplier Part Number 4: 09R6629; Supplier 5: Mouser; Supplier Part Number 5: 595-TPS23754PWP-1; Eco-Plan: Green (RoHS & no Sb/Br); Mounting Technology: Surface Mount; Code_JEDEC: MO-153; ComponentLink1Description: Manufacturer URL; ComponentLink1URL: http://www.ti.com/; ComponentLink2Description: Datasheet; ComponentLink2URL: http://www.ti.com/general/docs/lit/getliterature.tsp?genericPartNumber=TPS23754-1&fileType=pdf; ComponentLink3Description: Package Specification; ComponentLink3URL: http://www.ti.com/litv/pdf/mhts001g
footprint TI-PWP20-3610X2009TP_N (SOP, 20-Leads, Body 6.5x4.4mm, Pitch 0.65mm, Thermal Pad 3.605x2.005mm, IPC Medium Density)
footprint TI-PWP20-3610X2009TP_L (SOP, 20-Leads, Body 6.5x4.4mm, Pitch 0.65mm, Thermal Pad 3.605x2.005mm, IPC High Density)
footprint TI-PWP20-3610X2009TP_M (SOP, 20-Leads, Body 6.5x4.4mm, Pitch 0.65mm, Thermal Pad 3.605x2.005mm, IPC Low Density)
pins: 1 CTL (in) "The control loop input to the PWM (pulse width modulator), typically driven by output regulation feedback (e.g. optocoupler). Use VB as a pullup for CTL.", 2 VB (power) "5.1 V bias rail for dc/dc control circuits and the feedback optocoupler. Typically bypass with a 0.1 µF to ARTN.", 3 CS (in) "DC/DC converter switching MOSFET current sense input.", 4 COM (in) "Gate driver return, connect to ARTN and RTN.", 5 GATE (out) "Gate drive output for the main dc/dc converter switching MOSFET.", 6 VC (power) "DC/DC converter bias voltage. Connect a 0.47 µF (minimum) ceramic capacitor to ARTN at the pin, and a larger capacitor to power startup.", 7 GAT2 (hiz) "Gate drive output for a second dc/dc converter switching MOSFET.", 8 ARTN (in) "ARTN is the dc/dc converter analog return. Tie to RTN and COM on the circuit board.", 9 RTN "RTN is the output of the PoE hotswap MOSFET.", 10 VSS (power) "Connect to the negative power rail derived from the PoE source.", 11 VDD1 (power) "Source of dc/dc converter startup current. Connect to VDD for many applications.", 12 VDD (power) "Connect to the positive PoE input power rail. VDD powers the PoE interface circuits. Bypass with a 0.1 uF capacitor and protect with a TVS.", 13 DEN "Connect a 24.9 kohm resistor from DEN to VDD to provide the PoE detection signature. Pulling this pin to VSS during powered operation causes the internal hotswap MOSFET to turn off.", 14 NC "Float this no-connect pin.", 15 CLS (in) "Connect a resistor from CLS to VSS to program classification current. 2.5 V is applied to the program resistor during classification to set class current", 16 DT (in) "Connect a resistor from DT to ARTN to set the GATE to GAT2 dead time. Tie DT to VB to disable GAT2 operation.", 17 APD (in) "Raising VAPD-VARTN above 1.5 V disables the internal hotswap switch, turns class off, and forces T2P active. This forces power to come from a external VDD1-RTN adapter. Tie APD to ARTN when not used.", 18 BLNK (in) "Connect to ARTN to utilize the internally set current-sense blanking period, or connect a resistor from BLNK to ARTN to program a more accurate period.", 19 FRS (in) "Connect a resistor from FRS to ARTN to program the converter switching frequency. FRS may be used to synchronize the converter to an external timing source.", 20 ~{T2P} (oc) "Active low output that indicates a PSE has performed the IEEE 802.3at type 2 hardware classification, PPD is active, or APD is active.", 21 EP (power) "Connect to VSS."

## TPS23754PWPR
designator U?
High Power / High Efficiency PoE Interface and DC / DC Controller, -40 to 125 degC, 20-pin SOP (PW20), Green (RoHS & no Sb/Br); Manufacturer: Texas Instruments; PartNumber: TPS23754PWPR; Auxiliary Power Rails Supported: 24V-57V; Auxiliary/Local Power Support: Programmable; Driven/Active Clamp (Second Gate Drive): Yes; Duty Cycle(%): 78; Fault Response: Auto Retry; PD Power Level: 25W; PoE Current Limit(Min)(mA): 850; PoE I/F & DC DC Control: TRUE; PoE Inrush Limit(Typ)(mA): 140; PoE Standards Supported: 802.3at type1, 2; rDS(on) per FET(Typ)(mOhms): 430; SubFamily: Powered Device; Switching Frequency: Synchronizable and Programmable; UVLO: Unified; DatasheetVersion: SLVS885F; PackageVersion: 4073225-4/1; PackageReference: PWP20-3610X2009TP; PackageDescription: 20-Pin PowerPAD Plastic Small Outline, Body 6.5 x 4.4 mm,0.65 mm Pitch; Supplier 1: Digi-Key; Supplier Part Number 1: TPS23754PWPR-ND; Supplier 2: Newark; Supplier Part Number 2: 09R6630; Supplier 3: Mouser; Supplier Part Number 3: 595-TPS23754PWPR; Eco-Plan: Green (RoHS & no Sb/Br); Mounting Technology: Surface Mount; Code_JEDEC: MO-153; ComponentLink1Description: Manufacturer URL; ComponentLink1URL: http://www.ti.com/; ComponentLink2Description: Datasheet; ComponentLink2URL: http://www.ti.com/general/docs/lit/getliterature.tsp?genericPartNumber=TPS23754&fileType=pdf; ComponentLink3Description: Package Specification; ComponentLink3URL: http://www.ti.com/litv/pdf/mhts001g
footprint TI-PWP20-3610X2009TP_N (SOP, 20-Leads, Body 6.5x4.4mm, Pitch 0.65mm, Thermal Pad 3.605x2.005mm, IPC Medium Density)
footprint TI-PWP20-3610X2009TP_L (SOP, 20-Leads, Body 6.5x4.4mm, Pitch 0.65mm, Thermal Pad 3.605x2.005mm, IPC High Density)
footprint TI-PWP20-3610X2009TP_M (SOP, 20-Leads, Body 6.5x4.4mm, Pitch 0.65mm, Thermal Pad 3.605x2.005mm, IPC Low Density)
pins: 1 CTL (in) "The control loop input to the PWM (pulse width modulator), typically driven by output regulation feedback (e.g. optocoupler). Use VB as a pullup for CTL.", 2 VB (power) "5.1 V bias rail for dc/dc control circuits and the feedback optocoupler. Typically bypass with a 0.1 uF to ARTN.", 3 CS (in) "DC/DC converter switching MOSFET current sense input.", 4 COM (in) "Gate driver return, connect to ARTN and RTN.", 5 GATE (out) "Gate drive output for the main dc/dc converter switching MOSFET.", 6 VC (power) "DC/DC converter bias voltage. Connect a 0.47 uF (minimum) ceramic capacitor to ARTN at the pin, and a larger capacitor to power startup.", 7 GAT2 (hiz) "Gate drive output for a second dc/dc converter switching MOSFET", 8 ARTN (in) "ARTN is the dc/dc converter analog return. Tie to RTN and COM on the circuit board.", 9 RTN "RTN is the output of the PoE hotswap MOSFET.", 10 VSS (power) "Connect to the negative power rail derived from the PoE source.", 11 VDD1 (power) "Source of dc/dc converter startup current. Connect to VDD for many applications.", 12 VDD (power) "Connect to the positive PoE input power rail. VDD powers the PoE interface circuits. Bypass with a 0.1 uF capacitor and protect with a TVS.", 13 DEN "Connect a 24.9 k ohm resistor from DEN to VDD to provide the PoE detection signature. Pulling this pin to VSS during powered operation causes the internal hotswap MOSFET to turn off.", 14 PPD (in) "Raising VPPD-VSS above 1.55 V enables the hotswap MOSFET and activates T2P. Connecting PPD to VDD enables classification when APD is active. Tie PPD to VSS or float when not used.", 15 CLS (in) "Connect a resistor from CLS to VSS to program classification current. 2.5 V is applied to the program resistor during classification to set class current.", 16 DT (in) "Connect a resistor from DT to ARTN to set the GATE to GAT2 dead time. Tie DT to VB to disable GAT2 operation.", 17 APD (in) "Raising VAPD-VARTN above 1.5 V disables the internal hotswap switch, turns class off, and forces T2P active. This forces power to come from a external VDD1-RTN adapter. Tie APD to ARTN when not used.", 18 BLNK (in) "Connect to ARTN to utilize the internally set current-sense blanking period, or connect a resistor from BLNK to ARTN to program a more accurate period.", 19 FRS (in) "Connect a resistor from FRS to ARTN to program the converter switching frequency. FRS may be used to synchronize the converter to an external timing source.", 20 ~{T2P} (oc) "Active low output that indicates a PSE has performed the IEEE 802.3at type 2 hardware classification, PPD is active, or APD is active.", 21 EP (power) "Connect to VSS."

## TPS23754PWPR-1
designator U?
IEEE 802.3at PoE Interface and Isolated Converter Controller, -40 to 125 degC, 20-pin SOP (PW20), Green (RoHS & no Sb/Br); Manufacturer: Texas Instruments; PartNumber: TPS23754PWPR-1; Auxiliary Power Rails Supported: 24V-57V; Auxiliary/Local Power Support: Programmable; Driven/Active Clamp (Second Gate Drive): Yes; Duty Cycle(%): 78; Fault Response: Auto Retry; PD Power Level: 25W; PoE Current Limit(Min)(mA): 850; PoE I/F & DC DC Control: TRUE; PoE Inrush Limit(Typ)(mA): 140; PoE Standards Supported: 802.3at type1, 2; rDS(on) per FET(Typ)(mOhms): 430; SubFamily: Powered Device; Switching Frequency: Synchronizable and Programmable; UVLO: Unified; DatasheetVersion: SLVS885F; PackageVersion: 4073225-4/1; PackageReference: PWP20-3610X2009TP; PackageDescription: 20-Pin PowerPAD Plastic Small Outline, Body 6.5 x 4.4 mm,0.65 mm Pitch; Supplier 1: Digi-Key; Supplier Part Number 1: TPS23754PWPR-1-ND; Supplier 2: Mouser; Supplier Part Number 2: 595-TPS23754PWPR-1; Eco-Plan: Green (RoHS & no Sb/Br); Mounting Technology: Surface Mount; Code_JEDEC: MO-153; ComponentLink1Description: Manufacturer URL; ComponentLink1URL: http://www.ti.com/; ComponentLink2Description: Datasheet; ComponentLink2URL: http://www.ti.com/general/docs/lit/getliterature.tsp?genericPartNumber=TPS23754-1&fileType=pdf; ComponentLink3Description: Package Specification; ComponentLink3URL: http://www.ti.com/litv/pdf/mhts001g
footprint TI-PWP20-3610X2009TP_N (SOP, 20-Leads, Body 6.5x4.4mm, Pitch 0.65mm, Thermal Pad 3.605x2.005mm, IPC Medium Density)
footprint TI-PWP20-3610X2009TP_L (SOP, 20-Leads, Body 6.5x4.4mm, Pitch 0.65mm, Thermal Pad 3.605x2.005mm, IPC High Density)
footprint TI-PWP20-3610X2009TP_M (SOP, 20-Leads, Body 6.5x4.4mm, Pitch 0.65mm, Thermal Pad 3.605x2.005mm, IPC Low Density)
pins: 1 CTL (in) "The control loop input to the PWM (pulse width modulator), typically driven by output regulation feedback (e.g. optocoupler). Use VB as a pullup for CTL.", 2 VB (power) "5.1 V bias rail for dc/dc control circuits and the feedback optocoupler. Typically bypass with a 0.1 µF to ARTN.", 3 CS (in) "DC/DC converter switching MOSFET current sense input.", 4 COM (in) "Gate driver return, connect to ARTN and RTN.", 5 GATE (out) "Gate drive output for the main dc/dc converter switching MOSFET.", 6 VC (power) "DC/DC converter bias voltage. Connect a 0.47 µF (minimum) ceramic capacitor to ARTN at the pin, and a larger capacitor to power startup.", 7 GAT2 (hiz) "Gate drive output for a second dc/dc converter switching MOSFET.", 8 ARTN (in) "ARTN is the dc/dc converter analog return. Tie to RTN and COM on the circuit board.", 9 RTN "RTN is the output of the PoE hotswap MOSFET.", 10 VSS (power) "Connect to the negative power rail derived from the PoE source.", 11 VDD1 (power) "Source of dc/dc converter startup current. Connect to VDD for many applications.", 12 VDD (power) "Connect to the positive PoE input power rail. VDD powers the PoE interface circuits. Bypass with a 0.1 uF capacitor and protect with a TVS.", 13 DEN "Connect a 24.9 kohm resistor from DEN to VDD to provide the PoE detection signature. Pulling this pin to VSS during powered operation causes the internal hotswap MOSFET to turn off.", 14 NC "Float this no-connect pin.", 15 CLS (in) "Connect a resistor from CLS to VSS to program classification current. 2.5 V is applied to the program resistor during classification to set class current", 16 DT (in) "Connect a resistor from DT to ARTN to set the GATE to GAT2 dead time. Tie DT to VB to disable GAT2 operation.", 17 APD (in) "Raising VAPD-VARTN above 1.5 V disables the internal hotswap switch, turns class off, and forces T2P active. This forces power to come from a external VDD1-RTN adapter. Tie APD to ARTN when not used.", 18 BLNK (in) "Connect to ARTN to utilize the internally set current-sense blanking period, or connect a resistor from BLNK to ARTN to program a more accurate period.", 19 FRS (in) "Connect a resistor from FRS to ARTN to program the converter switching frequency. FRS may be used to synchronize the converter to an external timing source.", 20 ~{T2P} (oc) "Active low output that indicates a PSE has performed the IEEE 802.3at type 2 hardware classification, PPD is active, or APD is active.", 21 EP (power) "Connect to VSS."

## TPS23756PWP
designator U?
High Power / High Efficiency PoE Interface and DC / DC Controller, -40 to 125 degC, 20-pin SOP (PW20), Green (RoHS & no Sb/Br); Manufacturer: Texas Instruments; PartNumber: TPS23756PWP; Auxiliary Power Rails Supported: 12V-57V; Auxiliary/Local Power Support: Programmable; Driven/Active Clamp (Second Gate Drive): Yes; Duty Cycle(%): 78; Fault Response: Auto Retry; PD Power Level: 25W; PoE Current Limit(Min)(mA): 850; PoE I/F & DC DC Control: TRUE; PoE Inrush Limit(Typ)(mA): 140; PoE Standards Supported: 802.3at type1, 2; rDS(on) per FET(Typ)(mOhms): 430; SubFamily: Powered Device; Switching Frequency: Synchronizable and Programmable; UVLO: Unified; DatasheetVersion: SLVS885F; PackageVersion: 4073225-4/1; PackageReference: PWP20-3610X2009TP; PackageDescription: 20-Pin PowerPAD Plastic Small Outline, Body 6.5 x 4.4 mm,0.65 mm Pitch; Supplier 1: Digi-Key; Supplier Part Number 1: 296-24573-5-ND; Supplier 2: Farnell; Supplier Part Number 2: 1779975; Supplier 3: Newark; Supplier Part Number 3: 11R8326; Supplier 4: Mouser; Supplier Part Number 4: 595-TPS23756PWP; Eco-Plan: Green (RoHS & no Sb/Br); Mounting Technology: Surface Mount; Code_JEDEC: MO-153; ComponentLink1Description: Manufacturer URL; ComponentLink1URL: http://www.ti.com/; ComponentLink2Description: Datasheet; ComponentLink2URL: http://www.ti.com/general/docs/lit/getliterature.tsp?genericPartNumber=TPS23756&fileType=pdf; ComponentLink3Description: Package Specification; ComponentLink3URL: http://www.ti.com/litv/pdf/mhts001g
footprint TI-PWP20-3610X2009TP_N (SOP, 20-Leads, Body 6.5x4.4mm, Pitch 0.65mm, Thermal Pad 3.605x2.005mm, IPC Medium Density)
footprint TI-PWP20-3610X2009TP_L (SOP, 20-Leads, Body 6.5x4.4mm, Pitch 0.65mm, Thermal Pad 3.605x2.005mm, IPC High Density)
footprint TI-PWP20-3610X2009TP_M (SOP, 20-Leads, Body 6.5x4.4mm, Pitch 0.65mm, Thermal Pad 3.605x2.005mm, IPC Low Density)
pins: 1 CTL (in) "The control loop input to the PWM (pulse width modulator), typically driven by output regulation feedback (e.g. optocoupler). Use VB as a pullup for CTL.", 2 VB (power) "5.1 V bias rail for dc/dc control circuits and the feedback optocoupler. Typically bypass with a 0.1 uF to ARTN.", 3 CS (in) "DC/DC converter switching MOSFET current sense input.", 4 COM (in) "Gate driver return, connect to ARTN and RTN.", 5 GATE (out) "Gate drive output for the main dc/dc converter switching MOSFET.", 6 VC (power) "DC/DC converter bias voltage. Connect a 0.47 uF (minimum) ceramic capacitor to ARTN at the pin, and a larger capacitor to power startup.", 7 GAT2 (hiz) "Gate drive output for a second dc/dc converter switching MOSFET", 8 ARTN (in) "ARTN is the dc/dc converter analog return. Tie to RTN and COM on the circuit board.", 9 RTN "RTN is the output of the PoE hotswap MOSFET.", 10 VSS (power) "Connect to the negative power rail derived from the PoE source.", 11 VDD1 (power) "Source of dc/dc converter startup current. Connect to VDD for many applications.", 12 VDD (power) "Connect to the positive PoE input power rail. VDD powers the PoE interface circuits. Bypass with a 0.1 uF capacitor and protect with a TVS.", 13 DEN "Connect a 24.9 k ohm resistor from DEN to VDD to provide the PoE detection signature. Pulling this pin to VSS during powered operation causes the internal hotswap MOSFET to turn off.", 14 PPD (in) "Raising VPPD-VSS above 1.55 V enables the hotswap MOSFET and activates T2P. Connecting PPD to VDD enables classification when APD is active. Tie PPD to VSS or float when not used.", 15 CLS (in) "Connect a resistor from CLS to VSS to program classification current. 2.5 V is applied to the program resistor during classification to set class current.", 16 DT (in) "Connect a resistor from DT to ARTN to set the GATE to GAT2 dead time. Tie DT to VB to disable GAT2 operation.", 17 APD (in) "Raising VAPD-VARTN above 1.5 V disables the internal hotswap switch, turns class off, and forces T2P active. This forces power to come from a external VDD1-RTN adapter. Tie APD to ARTN when not used.", 18 BLNK (in) "Connect to ARTN to utilize the internally set current-sense blanking period, or connect a resistor from BLNK to ARTN to program a more accurate period.", 19 FRS (in) "Connect a resistor from FRS to ARTN to program the converter switching frequency. FRS may be used to synchronize the converter to an external timing source.", 20 ~{T2P} (oc) "Active low output that indicates a PSE has performed the IEEE 802.3at type 2 hardware classification, PPD is active, or APD is active.", 21 EP (power) "Connect to VSS."